# Altium schematic symbol library 430452410.SchLib: 1 symbol
Pins are listed as number, name and electrical type; pins without a type are passive.

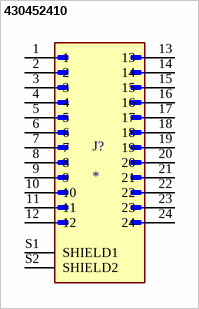
[diagram p0: symbol 430452410]

## 430452410
designator J?
Connector Header Surface Mount, Right Angle 24 position 0.118 (3.00mm); MF: Molex; MP: 430452410; SnapEDA_Link: https://www.snapeda.com/parts/430452410/Molex/view-part/?ref=snap; Package: None; Value: *; Check_prices: https://www.snapeda.com/parts/430452410/Molex/view-part/?ref=eda
footprint MOLEX_430452410
pins: 1, 2, 3, 4, 5, 6, 7, 8, 9, 10, 11, 12, 13, 14, 15, 16, 17, 18, 19, 20, 21, 22, 23, 24, S1 SHIELD1, S2 SHIELD2